# Altium schematic symbol library VincereVentusV3.SchLib: 35 symbols
Pins are listed as number, name and electrical type; pins without a type are passive.

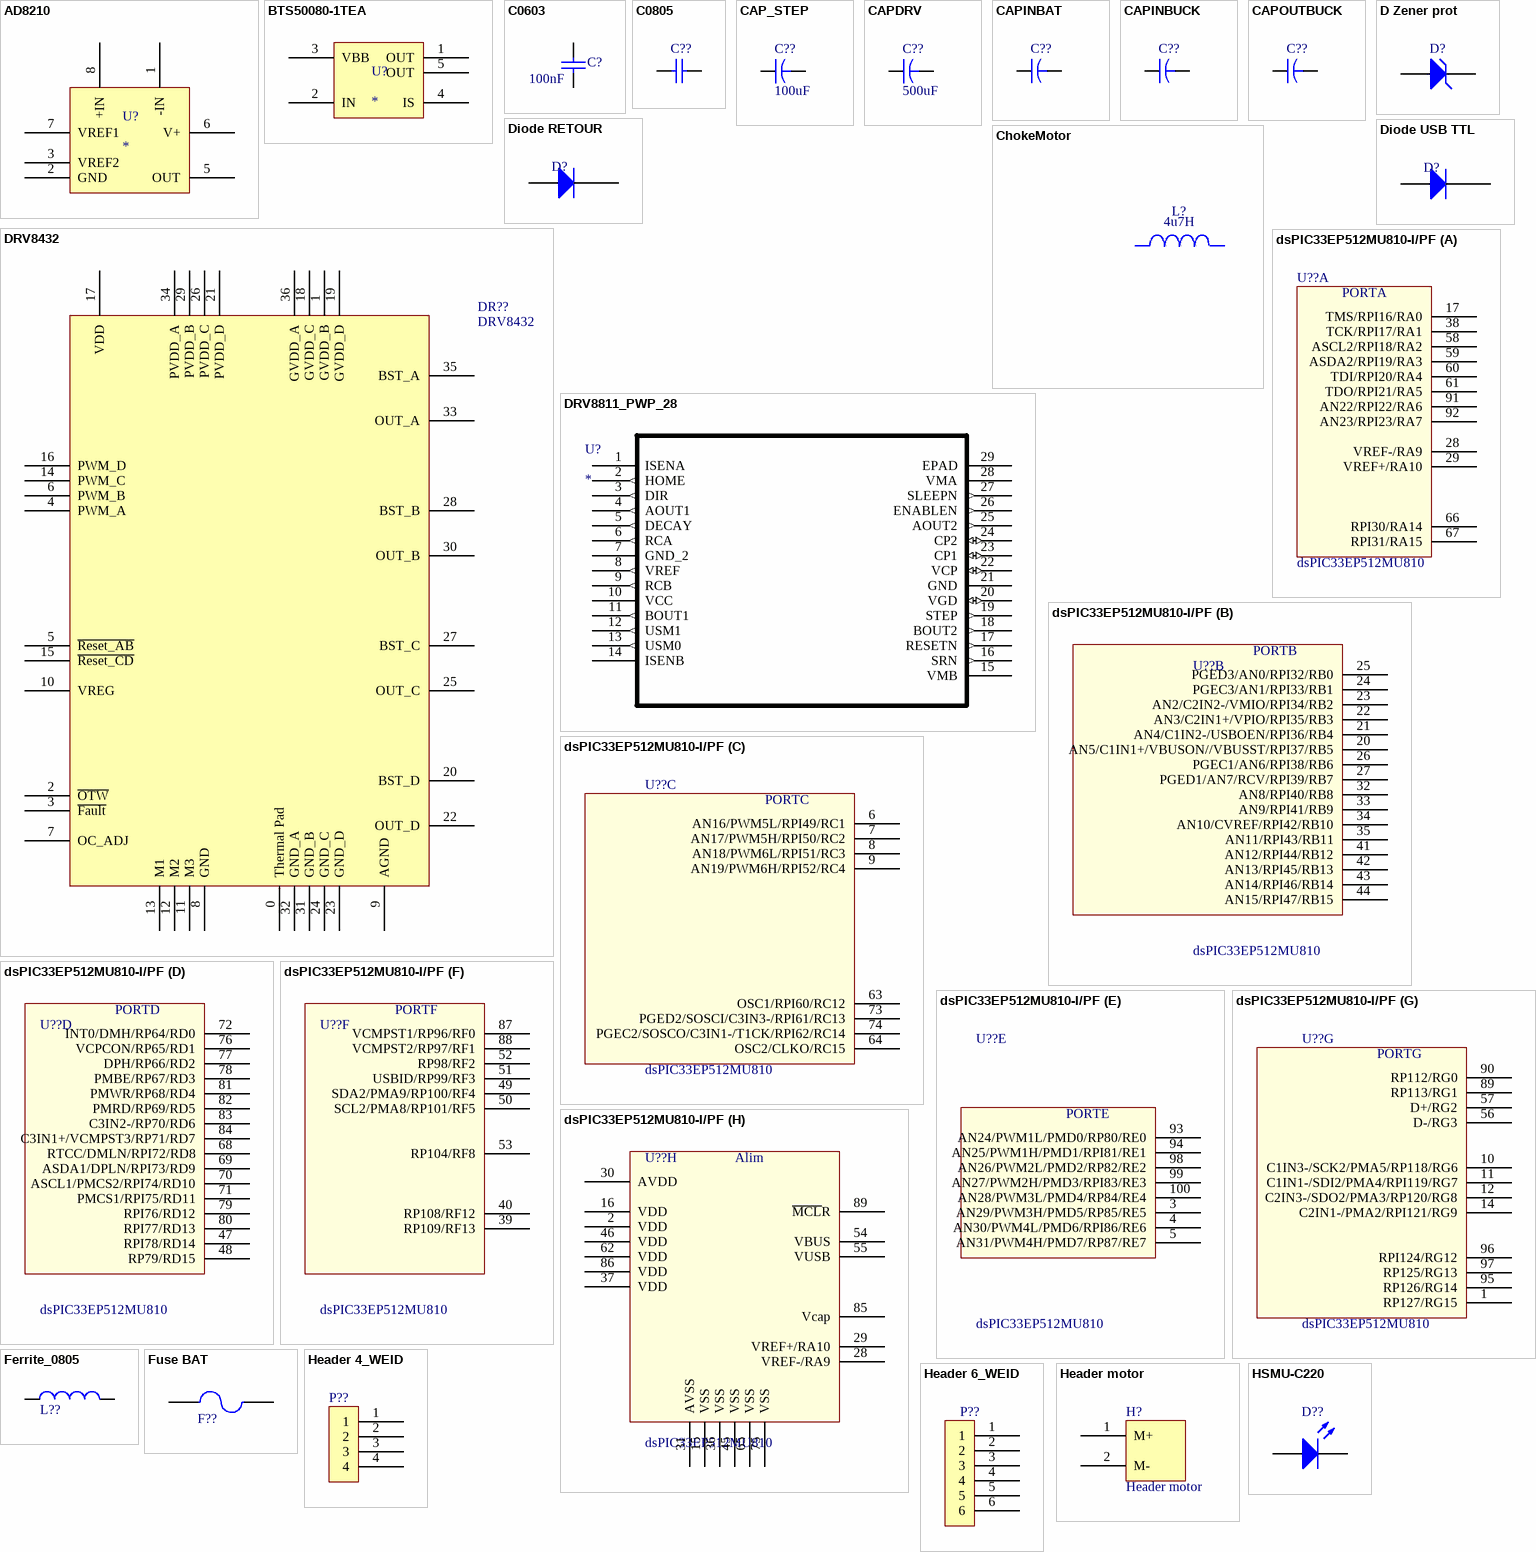
[diagram p0: symbols AD8210 to HSMU-C220]

## AD8210
designator U?
Bidirectionnal curent sense amplifier
pins: 1 -IN, 2 GND, 3 VREF2, 5 OUT, 6 V+, 7 VREF1, 8 +IN

## BTS50080-1TEA
designator U?
pins: 1 OUT, 2 IN, 3 VBB, 4 IS, 5 OUT

## C0603
designator C?  value 100nF  (hidden comment: C0603)
Ceramic Chip Capacitor - Standard; Note: Footprint corresponds to dimensions for bulk cassette packaging. This case size has tightened tolerances.; Published: 17-Jul-2002; LatestRevisionDate: 19-Mar-2004; LatestRevisionNote: Silkscreen size reduced.; DatasheetDocument: Mar-2001; PackageDocument: Mar-2001; PackageReference: 0603; Publisher: Altium Limited; Code_JEITA: 0603; Code_IPC: 1608 [0603]; ComponentLink1Description: Manufacturer Link; ComponentLink1URL: http://www.kemet.com/; ComponentLink2Description: Datasheet; ComponentLink2URL: http://www.kemet.com/kemet/web/homepage/kechome.nsf/vapubfilesname/F3102TA.pdf/$file/F3102TA.pdf
footprint 0603 (Chip Capacitor; Body 1.6 x 0.8 mm (LxW typ))
simulation model CAP (Capacitor)
signal-integrity model C0603
pins: 1, 2

## C0805
designator C??  (value not drawn)
Ceramic Chip Capacitor - Standard; Note: Footprint corresponds to dimensions for bulk cassette packaging. This case size has tightened tolerances.; Value: 100pF; Published: 17-Jul-2002; LatestRevisionDate: 19-Mar-2004; LatestRevisionNote: Silkscreen size reduced.; DatasheetDocument: Mar-2001; PackageDocument: Mar-2001; PackageReference: 0805; Publisher: Altium Limited; Code_JEITA: 0805; Code_IPC: 2012[0805]; ComponentLink1Description: Manufacturer Link; ComponentLink1URL: http://www.kemet.com/; ComponentLink2Description: Datasheet; ComponentLink2URL: http://www.kemet.com/kemet/web/homepage/kechome.nsf/vapubfilesname/F3102TA.pdf/$file/F3102TA.pdf
simulation model CAP (Capacitor)
signal-integrity model C0805
footprint C0805 (Chip Capacitor; Body 2.0 x 1.2 mm (LxW typ))
pins: 1, 2

## CAP_STEP
designator C??, comment 100uF
pins: 1, 2

## CAPDRV
designator C??, comment 500uF
pins: 1, 2

## CAPINBAT
designator C??
pins: 1, 2

## CAPINBUCK
designator C??
pins: 1, 2

## CAPOUTBUCK
designator C??, comment 1000uF  (value not drawn)
pins: 1, 2

## ChokeMotor
designator L?  value 4u7H
pins: 1, 2

## D Zener prot
designator D?  (value not drawn)
Zener Diode; LatestRevisionNote: Re-released for DXP Platform.; Publisher: Altium Limited
footprint SOD323 (SOD-323/SC-76; 2 Leads; Body 1.7 x 1.3 mm, (LxW))
pins: 1 A, 2 K

## Diode RETOUR
designator D?  (value not drawn)
pins: 1 A, 2 K

## Diode USB TTL
designator D?  (value not drawn)
pins: 1 A, 2 K

## DRV8432
designator DR??
Dual Full Bridge PWM Motor Driver
footprint DKD36_12P7X5P9
pins: 0 Thermal Pad (power), 1 GVDD_B, 2 ~{OTW}, 3 ~{Fault}, 4 PWM_A, 5 ~{Reset_AB}, 6 PWM_B, 7 OC_ADJ, 8 GND, 9 AGND, 10 VREG (power), 11 M3, 12 M2, 13 M1, 14 PWM_C, 15 ~{Reset_CD}, 16 PWM_D, 17 VDD, 18 GVDD_C, 19 GVDD_D, 20 BST_D, 21 PVDD_D, 22 OUT_D, 23 GND_D, 24 GND_C, 25 OUT_C, 26 PVDD_C, 27 BST_C, 28 BST_B, 29 PVDD_B, 30 OUT_B, 31 GND_B, 32 GND_A, 33 OUT_A, 34 PVDD_A, 35 BST_A, 36 GVDD_A

## DRV8811_PWP_28
designator U?
Imported; Manufacturer: Texas Instruments; GENERIC_PART_NUMBER: DRV8811; MANUFACTURER_PART_NUMBER: drv8811_pwp_28; INDUSTRY_STD_PKG_TYPE: HTSSOP; FAMILY_NAME: STEPPER DRIVER; PIN_COUNT: 28; PACKAGE_DESIGNATOR: PWP; Datasheet URL: http://www.ti.com/lit/gpn/DRV8811; VENDOR: Texas Instruments
footprint PWP28_5P18X3P1-M
pins: 1 ISENA (power), 2 HOME (out), 3 DIR (out), 4 AOUT1 (out), 5 DECAY (out), 6 RCA (out), 7 GND_2 (power), 8 VREF (out), 9 RCB (out), 10 VCC (power), 11 BOUT1 (out), 12 USM1 (out), 13 USM0 (out), 14 ISENB (power), 15 VMB (power), 16 SRN (out), 17 RESETN (out), 18 BOUT2 (out), 19 STEP (out), 20 VGD (io), 21 GND (power), 22 VCP (io), 23 CP1 (io), 24 CP2 (io), 25 AOUT2 (out), 26 ENABLEN (out), 27 SLEEPN (out), 28 VMA (power), 29 EPAD

## dsPIC33EP512MU810-I/PF
designator U??, comment dsPIC33EP512MU810
High-Performance, 16-bit  Digital Signal Controllers  and Microcontrollers; Supplier 1: Digi-Key; Supplier Part Number 1: DSPIC33EP512MU810-I/PF-ND
part A pins: 17 TMS/RPI16/RA0, 28 VREF-/RA9, 29 VREF+/RA10, 38 TCK/RPI17/RA1, 58 ASCL2/RPI18/RA2, 59 ASDA2/RPI19/RA3, 60 TDI/RPI20/RA4, 61 TDO/RPI21/RA5, 66 RPI30/RA14, 67 RPI31/RA15, 91 AN22/RPI22/RA6, 92 AN23/RPI23/RA7
part B pins: 20 AN5/C1IN1+/VBUSON//VBUSST/RPI37/RB5, 21 AN4/C1IN2-/USBOEN/RPI36/RB4, 22 AN3/C2IN1+/VPIO/RPI35/RB3, 23 AN2/C2IN2-/VMIO/RPI34/RB2, 24 PGEC3/AN1/RPI33/RB1, 25 PGED3/AN0/RPI32/RB0, 26 PGEC1/AN6/RPI38/RB6, 27 PGED1/AN7/RCV/RPI39/RB7, 32 AN8/RPI40/RB8, 33 AN9/RPI41/RB9, 34 AN10/CVREF/RPI42/RB10, 35 AN11/RPI43/RB11, 41 AN12/RPI44/RB12, 42 AN13/RPI45/RB13, 43 AN14/RPI46/RB14, 44 AN15/RPI47/RB15
part C pins: 6 AN16/PWM5L/RPI49/RC1, 7 AN17/PWM5H/RPI50/RC2, 8 AN18/PWM6L/RPI51/RC3, 9 AN19/PWM6H/RPI52/RC4, 63 OSC1/RPI60/RC12, 64 OSC2/CLKO/RC15, 73 PGED2/SOSCI/C3IN3-/RPI61/RC13, 74 PGEC2/SOSCO/C3IN1-/T1CK/RPI62/RC14
part D pins: 47 RPI78/RD14, 48 RP79/RD15, 68 RTCC/DMLN/RPI72/RD8, 69 ASDA1/DPLN/RPI73/RD9, 70 ASCL1/PMCS2/RPI74/RD10, 71 PMCS1/RPI75/RD11, 72 INT0/DMH/RP64/RD0, 76 VCPCON/RP65/RD1, 77 DPH/RP66/RD2, 78 PMBE/RP67/RD3, 79 RPI76/RD12, 80 RPI77/RD13, 81 PMWR/RP68/RD4, 82 PMRD/RP69/RD5, 83 C3IN2-/RP70/RD6, 84 C3IN1+/VCMPST3/RP71/RD7
part E pins: 3 AN29/PWM3H/PMD5/RP85/RE5, 4 AN30/PWM4L/PMD6/RPI86/RE6, 5 AN31/PWM4H/PMD7/RP87/RE7, 93 AN24/PWM1L/PMD0/RP80/RE0, 94 AN25/PWM1H/PMD1/RPI81/RE1, 98 AN26/PWM2L/PMD2/RP82/RE2, 99 AN27/PWM2H/PMD3/RPI83/RE3, 100 AN28/PWM3L/PMD4/RP84/RE4
part F pins: 39 RP109/RF13, 40 RP108/RF12, 49 SDA2/PMA9/RP100/RF4, 50 SCL2/PMA8/RP101/RF5, 51 USBID/RP99/RF3, 52 RP98/RF2, 53 RP104/RF8, 87 VCMPST1/RP96/RF0, 88 VCMPST2/RP97/RF1
part G pins: 1 RP127/RG15, 10 C1IN3-/SCK2/PMA5/RP118/RG6, 11 C1IN1-/SDI2/PMA4/RPI119/RG7, 12 C2IN3-/SDO2/PMA3/RP120/RG8, 14 C2IN1-/PMA2/RPI121/RG9, 56 D-/RG3, 57 D+/RG2, 89 RP113/RG1, 90 RP112/RG0, 95 RP126/RG14, 96 RPI124/RG12, 97 RP125/RG13
part H pins: 2 VDD, 15 VSS, 16 VDD, 28 VREF-/RA9, 29 VREF+/RA10, 30 AVDD, 31 AVSS, 36 VSS, 37 VDD, 45 VSS, 46 VDD, 54 VBUS, 55 VUSB, 62 VDD, 65 VSS, 75 VSS, 85 Vcap, 86 VDD, 89 ~{MCL}R
part A text: PORTA
part B text: PORTB
part C text: PORTC
part D text: PORTD
part E text: PORTE
part F text: PORTF
part G text: PORTG
part H text: Alim

## Ferrite_0805
designator L??  (value not drawn)
Ferrite
footprint R0805 (Chip Resistor; Body 2 x 1.2 mm (LxW typ))
pins: 1, 2

## Fuse BAT
designator F??  (value not drawn)
Fuse BATT; LatestRevisionNote: Re-released for DXP Platform.; Publisher: Altium Limited
footprint FUSE_1/4po_dX31.75mm
pins: 1, 2

## Header 4_WEID
designator P??  (value not drawn)
footprint HEADER_4_WEID
pins: 1, 2, 3, 4

## Header 6_WEID
designator P??  (value not drawn)
footprint HEADER_6_WEID
pins: 1, 2, 3, 4, 5, 6

## Header motor
designator H?
Connecteurs moteur; Manufacturer number: LS 5.08/02/90 3.5SN OR BX
footprint Header_motor_WEID
pins: 1 M+, 2 M-

## HSMU-C220
designator D??  (value not drawn)
High Performance Chip LED, Amber; LuminousIntensity: 100mcd (Minimum).; PCB_Layout: Complies with manufacturer's recommendation.; Published: 11-Dec-2002; DatasheetVersion: 30-Apr-2002; PackageVersion: Apr-2002; PackageReference: 2.0X1.25X1.2; Publisher: Altium Limited; PackageDescription: SM LED; 2 Flat Leads; LED_Colour: Amber; ComponentLink1Description: Manufacturer Link; ComponentLink1URL: http://www.avagotech.com/; ComponentLink2Description: Datasheet; ComponentLink2URL: http://cp.literature.agilent.com/litweb/pdf/5988-6549EN.pdf
footprint 2.0X1.25X1.2 (SM LED; 2 Flat Leads)
simulation model Agl_HSMUC220 (Diode)
signal-integrity model LED
pins: 1 A, 2 K

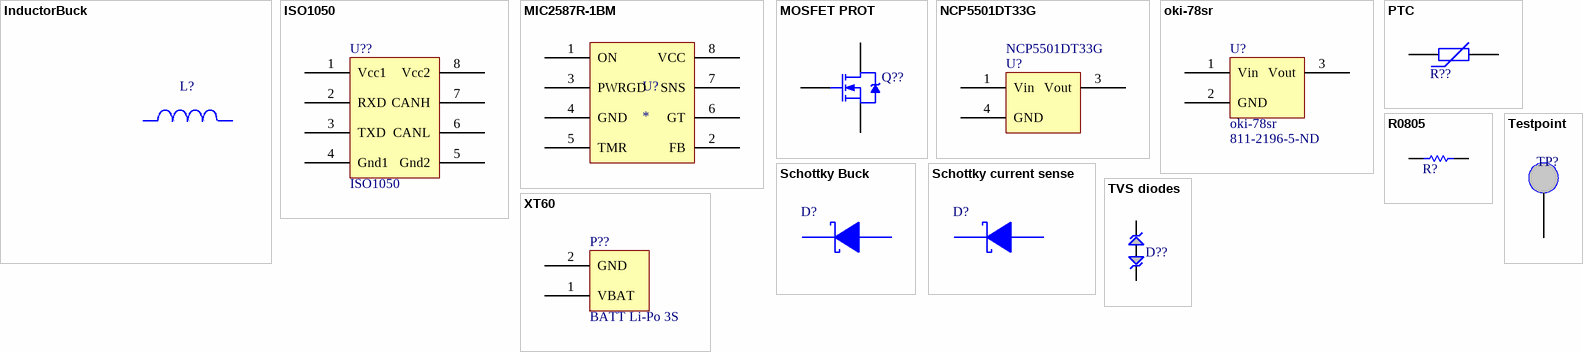
[diagram p1: symbols InductorBuck to XT60]

## InductorBuck
designator L?
pins: 1, 2

## ISO1050
designator U??
Isolated CAN transceiver
footprint ISO1050 (ISO1050 CAN Isolator)
pins: 1 Vcc1 (power), 2 RXD, 3 TXD, 4 Gnd1, 5 Gnd2, 6 CANL, 7 CANH, 8 Vcc2

## MIC2587R-1BM
designator U?
Electronic CB for BAT protection
pins: 1 ON, 2 FB, 3 PWRGD, 4 GND, 5 TMR, 6 GT, 7 SNS, 8 VCC

## MOSFET PROT
designator Q??
pins: 1 G, 2 D, 3 S

## NCP5501DT33G
designator U?
LDO 3.3V current limited 500 mA
footprint DPAK-3
pins: 1 Vin, 3 Vout, 4 GND

## oki-78sr
designator U?  Supplier Part Number 1: 811-2196-5-ND
5V 1.5A (Vin 7V-36V) swiching power supply - board mount; Supplier 1: Digi-Key
footprint oki-78sr (5V regulator)
pins: 1 Vin (power), 2 GND (power), 3 Vout (power)

## PTC
designator R??  (value not drawn)
pins: 1, 2

## R0805
designator R?  (value not drawn)
Resistor 0805
footprint R0805 (Chip Resistor; Body 2 x 1.2 mm (LxW typ))
pins: 1, 2

## Schottky Buck
designator D?, comment CRS08  (value not drawn)
pins: 1 K, 2 A

## Schottky current sense
designator D?, comment CRS08  (value not drawn)
pins: 1 K, 2 A

## Testpoint
designator TP?, comment 5003K  (value not drawn)
Testpoint for power
footprint 5003K (Testpoint)
pins: 1

## TVS diodes
designator D??  (value not drawn)
pins: 1, 2

## XT60
designator P??, comment BATT Li-Po 3S
BATT Li-Po 22.2V
footprint XT60_CON
pins: 1 VBAT (power), 2 GND (power)